# EAGLE library part FXM2IC102L8X (library fairchild-semi)
I2C BUS TRANSLATOR 2-Bit Dual Low Voltage
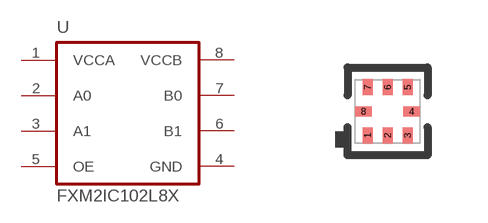
[diagram p0: symbol with the pads of UPAK8; footprint UPAK8]

Designator prefix U

## FXM2IC102L8X  [UPAK8]
1  VCCA  pwr
2  A0
3  A1
4  GND  pwr
5  OE  in
6  B1
7  B0
8  VCCB  pwr

## Footprint UPAK8 (pad centres in mm)
MicroPak-8 0.5mm pitch, 1.6mm wide body, JDEC MO-255 VARIATION UAAD
smd 0.25 x 0.4: 1 -0.5,-0.605; 2 0,-0.605; 3 0.5,-0.605; 5 0.5,0.605; 6 0,0.605; 7 -0.5,0.605
smd 0.4 x 0.25: 4 0.6,0; 8 -0.6,0